# Altium footprint library Mini-Circuits.PcbLib: 21 footprints (part 2 of 2)
Each footprint in its own frame and in the unit in brackets; x right, y up, seen from the top. Pads: shape width x height; smd on the part's side, far side on the other; paste and mask are expansions set on the pad; w line width, h text height; cw(c..) or ccw(c..) is an arc to the next point about the centre after c.
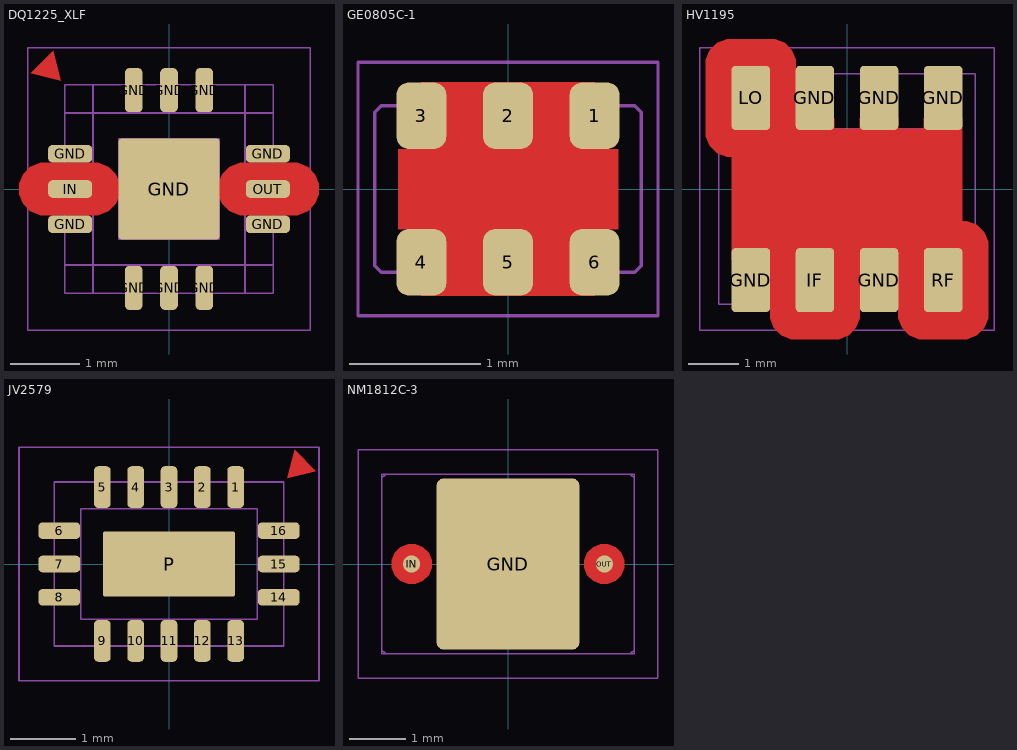
[diagram p1: the footprints below, top view; thin cyan lines are the x and y axes]

## DQ1225_XLF [mil]
pads (13):
  rrect50% 25x10 smd mask+2: GND(-56,-20) GND(-56,20) GND(56,-20) GND(56,20) IN(-56,0) OUT(56,0)
  rrect50% 10x25 smd mask+2: GND(-20,-56) GND(-20,56) GND(0,-56) GND(0,56) GND(20,-56) GND(20,56)
  rrect5% 57x57 smd paste-100 mask+2: GND(0,0)
Top Layer:
  region: -61.26,61.26 -65.5,78.23 -78.23,65.51
  pour cut-out: 43,15 40.02,15 34.5,12.72 30.28,8.5 28,2.98 28,0 28,-2.98 30.28,-8.5 34.5,-12.72 40.02,-15 43,-15 70,-15 72.98,-15 78.5,-12.72 82.72,-8.5 85,-2.98 85,0 85,2.98 82.72,8.5 78.5,12.72 72.98,15 70,15
  pour cut-out: -43,-15 -40.02,-15 -34.5,-12.72 -30.28,-8.5 -28,-2.98 -28,0 -28,2.98 -30.28,8.5 -34.5,12.72 -40.02,15 -43,15 -70,15 -72.98,15 -78.5,12.72 -82.72,8.5 -85,2.98 -85,0 -85,-2.98 -82.72,-8.5 -78.5,-12.72 -72.98,-15 -70,-15
Top Paste:
  rectangle: -24,5 -5,24
  region: -5,-24 -5,-5 -24,-5 -24,-24
  region: 24,-5 5,-5 5,-24 24,-24
  region: 5,24 5,5 24,5 24,24
Top Courtyard:
  lines w1: -80,-80 -80,80 80,80 80,-80 -80,-80
Top Component Outline:
  lines w1: -59.06,-43.05 59.06,-43.05 ; -59.06,43.06 59.06,43.06 ; -43.06,-59.05 -43.06,59.06 ; 43.06,-59.05 43.06,59.06 ; -59.06,-59.05 59.06,-59.05 59.06,59.06 -59.06,59.06 -59.06,-59.05 ; -28.5,-28.5 -28.5,28.5 28.5,28.5 28.5,-28.5 -28.5,-28.5
3D body: height 35, standoff 0, extent -59.06,-59.05 59.06,59.06
3D body: height 10, standoff 0, extent -60.06,14.69 -50.06,24.69
3D body: height 10, standoff 0, extent -60.06,-5 -50.06,5
3D body: height 10, standoff 0, extent -60.06,-24.68 -50.06,-14.69
3D body: height 10, standoff 0, extent 14.69,-60.06 24.68,-50.06
3D body: height 10, standoff 0, extent -5,-60.06 5,-50.06
3D body: height 10, standoff 0, extent -24.69,-60.06 -14.69,-50.06
3D body: height 10, standoff 0, extent 50.06,14.69 60.06,24.69
3D body: height 10, standoff 0, extent 50.06,-5 60.06,5
3D body: height 10, standoff 0, extent 50.06,-24.68 60.06,-14.69
3D body: height 10, standoff 0, extent -24.69,50.06 -14.69,60.06
3D body: height 10, standoff 0, extent -5,50.06 5,60.06
3D body: height 10, standoff 0, extent 14.69,50.06 24.68,60.06

## GE0805C-1 [mil]
pads (6):
  rrect50% 15x20 smd paste+0 mask+2: 1(26,22) 2(0,22) 3(-26,22) 4(-26,-22) 5(0,-22) 6(26,-22)
Top Layer:
  pour cut-out: -33,-12 -26,-12 -26,-32 26,-32 26,-12 33,-12 33,12 26,12 26,32 -26,32 -26,12 -33,12
Top Solder:
  region: 15,5 15,-5 25,-5 25,5
Top Designator:
  text ".Designator" at -127.64,-12.5 h35
Top Courtyard:
  lines w1: -45,-38 -45,38 45,38 45,-38 -45,-38
Top Component Outline:
  lines w1: -40,-23 -38,-25 38,-25 40,-23 40,23 38,25 -38,25 -40,23 -40,-23
3D body: height 37.44, standoff 0, extent 7.5,-8 32.5,8
3D body: height 37.8, standoff 0, extent -7,-26 7,-18
3D body: height 37.8, standoff 0, extent -33,-26 -19,-18
3D body: height 37.8, standoff 0, extent 19,-26 33,-18
3D body: height 37.8, standoff 0, extent -33,18 -19,26
3D body: height 37.8, standoff 0, extent 19,18 33,26
3D body: height 37.4, standoff 1, extent -40,-25 40,25
3D body: height 37.8, standoff 0, extent -7,18 7,26

## HV1195 [mil]
pads (8):
  rrect20% 30x50 smd mask+2: GND(-75,-71) GND(-25,71) GND(25,-71) GND(25,71) GND(75,71) IF(-25,-71) LO(-75,71) RF(75,-71)
Top Layer:
  region: -10,55 -10,47 10,47 10,55 40,55 40,47 60,47 60,55 90,55 90,-25 40,-25 40,-55 10,-55 10,-25 -60,-25 -60,-55 -90,-55 -90,25 -40,25 -40,55
  pour cut-out: -60,-25 -60,-97 -60,-100.98 -56.96,-108.33 -51.33,-113.96 -43.98,-117 -40,-117 -10,-117 -6.02,-117 1.33,-113.96 6.96,-108.33 10,-100.98 10,-97 10,-25
  pour cut-out: 40,-25 40,-97 40,-100.98 43.04,-108.33 48.67,-113.96 56.02,-117 60,-117 90,-117 93.98,-117 101.33,-113.96 106.96,-108.33 110,-100.98 110,-97 110,-45 110,-41.02 106.96,-33.67 101.33,-28.04 93.98,-25 90,-25
  pour cut-out: -40,25 -40,97 -40,100.98 -43.04,108.33 -48.67,113.96 -56.02,117 -60,117 -90,117 -93.98,117 -101.33,113.96 -106.96,108.33 -110,100.98 -110,97 -110,45 -110,41.02 -106.96,33.67 -101.33,28.04 -93.98,25 -90,25
Top Paste:
  region: -13,18 -13,39 -37,39 -37,18
  region: 37,18 37,39 13,39 13,18
  region: 87,18 87,39 63,39 63,18
  region: 13,-18 13,-39 37,-39 37,-18
  region: -87,-18 -87,-39 -63,-39 -63,-18
Top Designator:
  text ".Designator" at -127.64,-12.5 h35
Top Courtyard:
  lines w1: -115,-110 115,-110 115,110 -115,110 -115,-110
Top Component Outline:
  lines w1: -89,-90 -89,25 -39,25 -39,90 ; -89,90 -89,47 -61,47 -61,90 ; -61,-90 -61,-25 11,-25 11,-90 ; -39,-90 -39,-47 -11,-47 -11,-90 ; -11,90 -11,47 11,47 11,90 ; 39,-90 39,-25 89,-25 89,90 ; 39,90 39,47 61,47 61,90 ; 61,-90 61,-47 89,-47 89,-90 ; -100,-90 -100,90 100,90 100,-90 -100,-90
3D body: height 87, standoff 30, extent -89,-68.5 89,69.5
3D body: height 40, standoff 0, extent -100,-90 100,90
3D body: height 87.5, standoff 80, extent -77,-56 -67,-46
3D body: height 10, standoff 0, extent -39,-92 -11,-47
3D body: height 10, standoff 0, extent -89,-92 -61,-47
3D body: height 10, standoff 0, extent 11,-92 39,-47
3D body: height 10, standoff 0, extent 61,-92 89,-47
3D body: height 10, standoff 0, extent -89,47 -61,92
3D body: height 10, standoff 0, extent -39,47 -11,92
3D body: height 10, standoff 0, extent 61,47 89,92
3D body: height 10, standoff 0, extent 11,47 39,92

## JV2579 [mil]
pads (17):
  rrect50% 10x25 smd mask+2: 1(40,46.16) 2(20,46.16) 3(0,46.16) 4(-20,46.16) 5(-40,46.16) 9(-40,-46.16) 10(-20,-46.16) 11(0,-46.16) 12(20,-46.16) 13(40,-46.16)
  rrect50% 25x10 smd mask+2: 6(-65.84,20) 7(-65.84,0) 8(-65.84,-20) 14(65.84,-20) 15(65.84,0) 16(65.84,20)
  rrect5% 79x39 smd paste-100 mask+2: P(0,0)
Top Layer:
  region: 71.09,51.43 88.06,55.68 75.33,68.4
Top Paste:
  region: 38,18 18,18 18,-18 38,-18
  region: 10,18 -10,18 -10,-18 10,-18
  region: -18,18 -38,18 -38,-18 -18,-18
Top Courtyard:
  lines w1: -90,-70 90,-70 90,70 -90,70 -90,-70
Top Component Outline:
  lines w1: -68.91,49.22 -68.91,-49.2 68.9,-49.22 68.9,49.21 ; -68.91,49.23 68.88,49.23 ; -52.91,-33.22 -52.91,33.23 52.9,33.23 52.9,-33.22 -52.91,-33.22
3D body: height 33, standoff 0, extent -68.91,-49.2 68.9,49.21
3D body: height 10, standoff 0, extent -44.69,40.21 -34.69,50.21
3D body: height 10, standoff 0, extent -44.69,-50.21 -34.69,-40.21
3D body: height 10, standoff 0, extent 34.69,40.21 44.69,50.21
3D body: height 10, standoff 0, extent 34.69,-50.21 44.69,-40.21
3D body: height 10, standoff 0, extent 59.9,-24.69 69.9,-14.69
3D body: height 10, standoff 0, extent 59.9,-5 69.9,5
3D body: height 10, standoff 0, extent 59.9,14.69 69.9,24.68
3D body: height 10, standoff 0, extent -24.68,40.21 -14.69,50.21
3D body: height 10, standoff 0, extent -5,40.21 5,50.21
3D body: height 10, standoff 0, extent 14.69,40.21 24.69,50.21
3D body: height 10, standoff 0, extent 14.69,-50.21 24.69,-40.21
3D body: height 10, standoff 0, extent -5,-50.21 5,-40.21
3D body: height 10, standoff 0, extent -24.68,-50.21 -14.69,-40.21
3D body: height 10, standoff 0, extent -69.9,14.69 -59.9,24.69
3D body: height 10, standoff 0, extent -69.9,-5 -59.9,5
3D body: height 10, standoff 0, extent -69.9,-24.68 -59.9,-14.69

## NM1812C-3 [mil]
pads (3):
  rrect10% 100x120 smd paste-200 mask+2: GND(0,0)
  round 12 smd paste+0 mask+1.5: IN(-67.5,0) OUT(67.5,0)
Top Layer:
  pour cut-out: -67.5,-14 -64.72,-14 -59.57,-11.87 -55.63,-7.93 -53.5,-2.78 -53.5,0 -53.5,2.78 -55.63,7.93 -59.57,11.87 -64.72,14 -67.5,14 -70.28,14 -75.43,11.87 -79.37,7.93 -81.5,2.78 -81.5,0 -81.5,-2.78 -79.37,-7.93 -75.43,-11.87 -70.28,-14
  pour cut-out: 67.5,-14 70.28,-14 75.43,-11.87 79.37,-7.93 81.5,-2.78 81.5,0 81.5,2.78 79.37,7.93 75.43,11.87 70.28,14 67.5,14 64.72,14 59.57,11.87 55.63,7.93 53.5,2.78 53.5,0 53.5,-2.78 55.63,-7.93 59.57,-11.87 64.72,-14
Top Paste:
  drawing of 57 lines, arcs and shapes, not listed
Top Solder:
  region: 53.5,0 53.77,-2.73 55.86,-7.78 59.72,-11.64 64.77,-13.73 67.5,-14 70.23,-13.73 75.28,-11.64 79.14,-7.78 81.23,-2.73 81.5,0 81.5,10 88.5,10 88.5,-58 88.5,-58.99 87.74,-60.83 86.33,-62.24 84.49,-63 83.5,-63 -83.5,-63 -84.49,-63 -86.33,-62.24 -87.74,-60.83 -88.5,-58.99 -88.5,-58 -88.5,10 -81.5,10 -81.5,0 -81.23,-2.73 -79.14,-7.78 -75.28,-11.64 -70.23,-13.73 -67.5,-14 -64.77,-13.73 -59.72,-11.64 -55.86,-7.78 -53.77,-2.73 -53.5,0 -53.5,5 53.5,5
  region: -53.5,0 -53.77,2.73 -55.86,7.78 -59.72,11.64 -64.77,13.73 -67.5,14 -70.23,13.73 -75.28,11.64 -79.14,7.78 -81.23,2.73 -81.5,0 -81.5,-10 -88.5,-10 -88.5,58 -88.5,58.99 -87.74,60.83 -86.33,62.24 -84.49,63 -83.5,63 83.5,63 84.49,63 86.33,62.24 87.74,60.83 88.5,58.99 88.5,58 88.5,-10 81.5,-10 81.5,0 81.23,2.73 79.14,7.78 75.28,11.64 70.23,13.73 67.5,14 64.77,13.73 59.72,11.64 55.86,7.78 53.77,2.73 53.5,0 53.5,-5 -53.5,-5
Top Courtyard:
  lines w1: -105,-80 105,-80 105,80 -105,80 -105,-80
Top Component Outline:
  lines w1: -88.5,-58 ccw(c-83.5,-58) -83.5,-63 ; -88.5,58 cw(c-83.5,58) -83.5,63 ; 83.5,-63 ccw(c83.5,-58) 88.5,-58 ; 83.5,63 cw(c83.5,58) 88.5,58 ; -88.5,-63 88.5,-63 88.5,63 -88.5,63 -88.5,-63
3D body: height 60, standoff 58, extent -75,-10 -35,10
3D body: height 59, standoff 0, extent -88.5,-63 88.5,63